# Altium footprint library BM8563.PcbLib: 1 footprints
Each footprint in its own frame and in the unit in brackets; x right, y up, seen from the top. Pads: shape width x height; smd on the part's side, far side on the other; paste and mask are expansions set on the pad; w line width, h text height; cw(c..) or ccw(c..) is an arc to the next point about the centre after c.
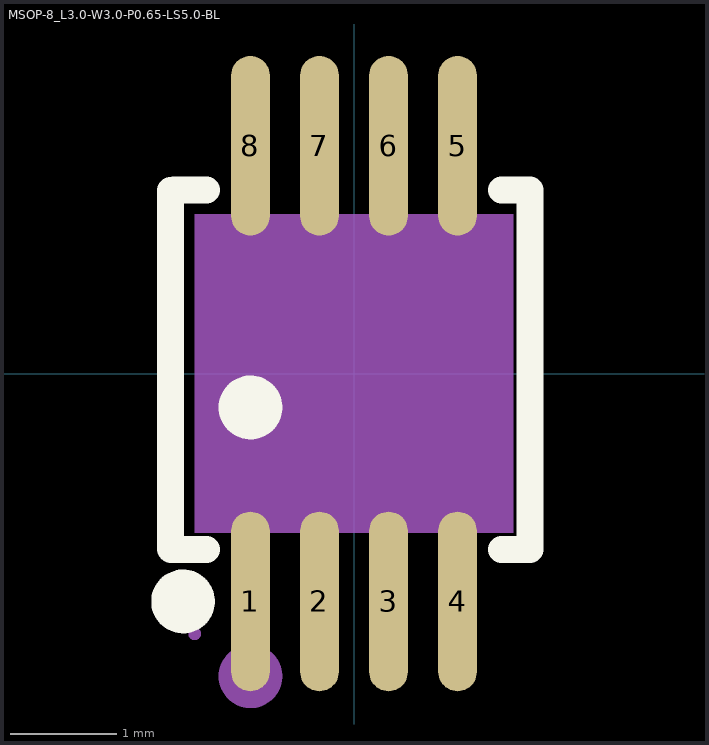
[diagram p0: the footprint, top view; thin cyan lines are the x and y axes]

## MSOP-8_L3.0-W3.0-P0.65-LS5.0-BL [mm]
pads (8):
  oval 0.364x1.692 smd: 1(-0.975,-2.146) 2(-0.325,-2.146) 3(0.325,-2.146) 4(0.975,-2.146) 5(0.975,2.146) 6(0.325,2.146) 7(-0.325,2.146) 8(-0.975,2.146)
Top Overlay:
  circle w0.3: c-1.609,-2.146 r0.15
  circle w0.3: c-0.975,-0.319 r0.15
  lines w0.254: -1.73,1.724 -1.73,-1.652 -1.723,-1.658 -1.388,-1.658 ; -1.717,1.71 -1.697,1.73 -1.388,1.73 ; 1.388,-1.658 1.659,-1.658 1.659,1.73 1.388,1.73
Mechanical 4:
  region: -1.5,-1.5 -1.5,1.5 1.5,1.5 1.5,-1.5
Mechanical 5:
  pour cut-out: 0.82,1.86 0.82,1.49 1.13,1.49 1.13,1.86
  region: 0.82,2.45 0.82,1.85 1.13,1.85 1.13,2.45
  pour cut-out: 0.17,1.86 0.17,1.49 0.48,1.49 0.48,1.86
  region: 0.17,2.45 0.17,1.85 0.48,1.85 0.48,2.45
  pour cut-out: -0.48,1.86 -0.48,1.49 -0.17,1.49 -0.17,1.86
  region: -0.48,2.45 -0.48,1.85 -0.17,1.85 -0.17,2.45
  pour cut-out: -1.13,1.86 -1.13,1.49 -0.82,1.49 -0.82,1.86
  region: -1.13,2.45 -1.13,1.85 -0.82,1.85 -0.82,2.45
  pour cut-out: 0.82,-1.86 0.82,-1.49 1.13,-1.49 1.13,-1.86
  region: 0.82,-2.45 0.82,-1.85 1.13,-1.85 1.13,-2.45
  pour cut-out: 0.17,-1.86 0.17,-1.49 0.48,-1.49 0.48,-1.86
  region: 0.17,-2.45 0.17,-1.85 0.48,-1.85 0.48,-2.45
  pour cut-out: -0.48,-1.86 -0.48,-1.49 -0.17,-1.49 -0.17,-1.86
  region: -0.48,-2.45 -0.48,-1.85 -0.17,-1.85 -0.17,-2.45
  pour cut-out: -1.13,-1.86 -1.13,-1.49 -0.82,-1.49 -0.82,-1.86
  region: -1.13,-2.45 -1.13,-1.85 -0.82,-1.85 -0.82,-2.45
Mechanical 6:
  circle w0.06: c-1.5,-2.45 r0.03
Mechanical 15:
  circle w0.3: c-0.975,-2.85 r0.15